# Altium schematic symbol library Schlib1.SchLib: 10 symbols
Pins are listed as number, name and electrical type; pins without a type are passive.

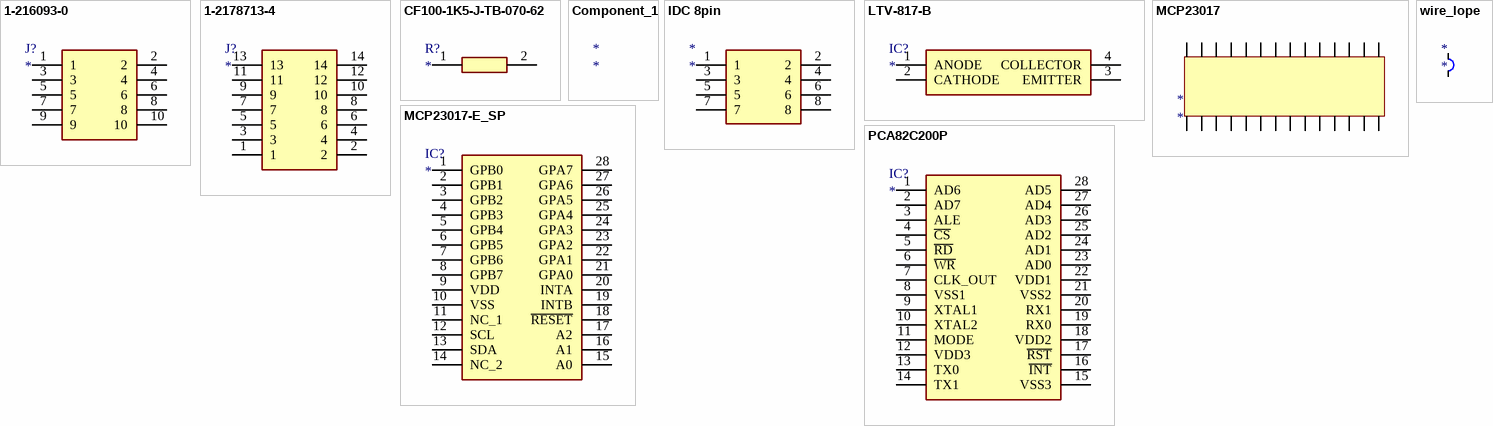
[diagram p0: symbols 1-216093-0 to wire_lope]

## 1-216093-0
designator J?
Connector; Manufacturer_Name: TE Connectivity; Manufacturer_Part_Number: 1-216093-0; Datasheet Link: https://componentsearchengine.com/Datasheets/2/1-216093-0.pdf; Height: 6.8mm; Mouser Part Number: 571-1-216093-0; Mouser Price/Stock: https://www.mouser.co.uk/ProductDetail/TE-Connectivity/1-216093-0?qs=m7RwewakXS%2F9HSJylQnIAQ%3D%3D; Arrow Part Number: 1-216093-0; Arrow Price/Stock: https://www.arrow.com/en/products/1-216093-0/te-connectivity
footprint 12160930
pins: 1, 2, 3, 4, 5, 6, 7, 8, 9, 10

## 1-2178713-4
designator J?
Connector; Manufacturer_Name: TE Connectivity; Manufacturer_Part_Number: 1-2178713-4; Datasheet Link: http://www.te.com/commerce/DocumentDelivery/DDEController?Action=showdoc&DocId=Customer+Drawing%7F2178713%7FA%7Fpdf%7FEnglish%7FENG_CD_2178713_A_pdf_c-2178713_drw.pdf%7F1-2178713-4; Height: 7mm; Mouser Part Number: 571-1-2178713-4; Mouser Price/Stock: https://www.mouser.co.uk/ProductDetail/TE-Connectivity/1-2178713-4?qs=Xjc0wECptJDfmxi5RuTlKQ%3D%3D
footprint 121787134
pins: 1, 2, 3, 4, 5, 6, 7, 8, 9, 10, 11, 12, 13, 14

## CF100-1K5-J-TB-070-62
designator R?
Resistor; Manufacturer_Name: HKR; Manufacturer_Part_Number: CF100-1K5-J-TB-070-62; Datasheet Link: http://www.hkresistors.com/img2015/CF_BULK_PACKING_DATA_SHEET_2015_Copper_WIRE.pdf
footprint RESAD2700W60L1100D400
pins: 1, 2

## Component_1
designator *

## IDC 8pin
designator *
pins: 1, 2, 3, 4, 5, 6, 7, 8

## LTV-817-B
designator IC?
Integrated Circuit; Manufacturer_Name: Lite-On; Manufacturer_Part_Number: LTV-817-B; Datasheet Link: http://optoelectronics.liteon.com/upload/download/DS-70-96-0016/LTV-8X7%20series%20201610%20.pdf; Height: 4.2mm; Mouser Part Number: N/A; Mouser Price/Stock: https://www.mouser.co.uk/ProductDetail/Lite-On/LTV-817-B?qs=5Clb0NIqk7HzP4M9tIz87Q%3D%3D; Arrow Part Number: LTV-817-B; Arrow Price/Stock: https://www.arrow.com/en/products/ltv-817-b/lite-on-technology
footprint DIP762W60P254L460H420Q4N
pins: 1 ANODE, 2 CATHODE, 3 EMITTER, 4 COLLECTOR

## MCP23017
designator *
pins: 9 "X3 pin 1", 9 "X3 pin 1", 9 "X3 pin 1", 9 "X3 pin 1", 10 "X3 pin 1", 10 "X3 pin 1", 10 "X3 pin 1", 10 "X3 pin 1", 11 "X3 pin 1", 11 "X3 pin 1", 11 "X3 pin 1", 11 "X3 pin 1", 12 "X3 pin 1", 12 "X3 pin 1", 12 "X3 pin 1", 12 "X3 pin 1", 13 "X3 pin 1", 13 "X3 pin 1", 13 "X3 pin 1", 13 "X3 pin 1", 14 "X3 pin 1", 14 "X3 pin 1", 15 "X3 pin 1", 15 "X3 pin 1", 16 "X3 pin 1", 16 "X3 pin 1", 17 "X3 pin 1", 17 "X3 pin 1"

## MCP23017-E_SP
designator IC?
Integrated Circuit; Manufacturer_Name: Microchip; Manufacturer_Part_Number: MCP23017-E/SP; Datasheet Link: http://docs-emea.rs-online.com/webdocs/137e/0900766b8137eed4.pdf; Height: 5.08mm; Mouser Part Number: 579-MCP23017-E/SP; Mouser Price/Stock: https://www.mouser.co.uk/ProductDetail/Microchip-Technology/MCP23017-E-SP?qs=usxtMOJb1RyESXZDw7ia5A%3D%3D; Arrow Part Number: MCP23017-E/SP; Arrow Price/Stock: https://www.arrow.com/en/products/mcp23017-esp/microchip-technology
footprint DIP794W56P254L3486H508Q28N
pins: 1 GPB0, 2 GPB1, 3 GPB2, 4 GPB3, 5 GPB4, 6 GPB5, 7 GPB6, 8 GPB7, 9 VDD, 10 VSS, 11 NC_1, 12 SCL, 13 SDA, 14 NC_2, 15 A0, 16 A1, 17 A2, 18 ~{RESET}, 19 INTB, 20 INTA, 21 GPA0, 22 GPA1, 23 GPA2, 24 GPA3, 25 GPA4, 26 GPA5, 27 GPA6, 28 GPA7

## PCA82C200P
designator IC?
Integrated Circuit; Manufacturer_Name: PHILIPS; Manufacturer_Part_Number: PCA82C200P; Datasheet Link: https://html.alldatasheetcn.com/html-pdf/87716/PHILIPS/PCA82C200/248/1/PCA82C200.html; Height: 5.1mm
footprint DIP1580W53P254L3600H510Q28N
pins: 1 AD6, 2 AD7, 3 ALE, 4 ~{CS}, 5 ~{RD}, 6 ~{WR}, 7 CLK_OUT, 8 VSS1, 9 XTAL1, 10 XTAL2, 11 MODE, 12 VDD3, 13 TX0, 14 TX1, 15 VSS3, 16 ~{INT}, 17 ~{RST}, 18 VDD2, 19 RX0, 20 RX1, 21 VSS2, 22 VDD1, 23 AD0, 24 AD1, 25 AD2, 26 AD3, 27 AD4, 28 AD5

## wire_lope
designator *
pins: 6 "X3 pin 1", 7 "X3 pin 1"